# Altium schematic symbol library Standard_Passives.SchLib: 5 symbols
Pins are listed as number, name and electrical type; pins without a type are passive.

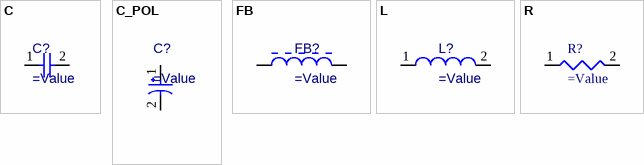
[diagram p0: symbols C to R]

## C
designator C?
Generic non-polarized capacitor (ceramic/film), value defined per instance
footprint CAP_0805_IPC_N (Chip capacitor 0805 (2.00x1.25x0.50mm) - IPC Nominal)
footprint Model Name (Model Description)
pins: 1, 2

## C_POL
designator C?
Generic polarized capacitor (electrolytic/tantalum/polymer), value defined per instance
pins: 1, 2

## FB
designator FB?
Ferrite bead for EMI suppression, impedance defined per instance
pins: 1, 2

## L
designator L?
Generic inductor, value defined per instance
pins: 1, 2

## R
designator R?
Generic resistor, value defined per instance
pins: 1, 2